# Altium schematic symbol library INA240A1PW.SchLib: 1 symbol
Pins are listed as number, name and electrical type; pins without a type are passive.

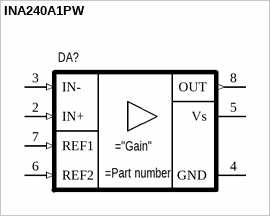
[diagram p0: symbol INA240A1PW]

## INA240A1PW
designator DA?
High- and Low-Side, Bidirectional, Zero-Drift, Current-Sense Amplifier With Enhanced PWM Rejection; Gain: ="Gain"
pins: 2 IN+ (in), 3 IN- (in), 4 GND (power), 5 Vs (power), 6 REF2 (in), 7 REF1 (in), 8 OUT (out)